# Altium footprint library SMA.PcbLib: 1 footprints
Each footprint in its own frame and in the unit in brackets; x right, y up, seen from the top. Pads: shape width x height; smd on the part's side, far side on the other; paste and mask are expansions set on the pad; w line width, h text height; cw(c..) or ccw(c..) is an arc to the next point about the centre after c.
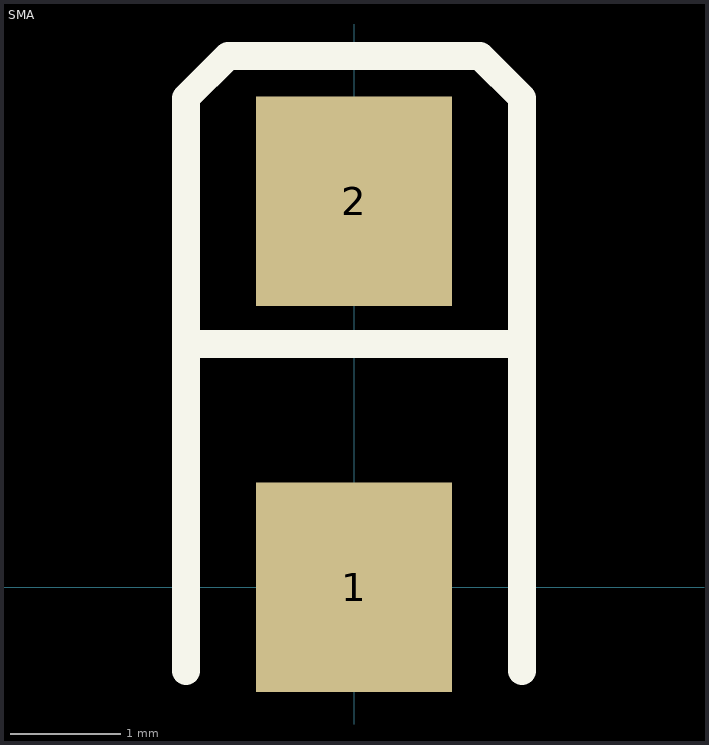
[diagram p0: the footprint, top view; thin cyan lines are the x and y axes]

## SMA [mil]
pads (2):
  rect 70x75 smd: 1(0,0) 2(0,138)
TopOverlay:
  lines w10: -60,-30 -60,175 -45,190 45,190 60,175 60,-30 ; -60,87 60,87
3D body: height 85, standoff 1, extent -52.5,-32.5 52.5,168.5